# EAGLE library part S8232 (library Strawson_Eagle_Lib)
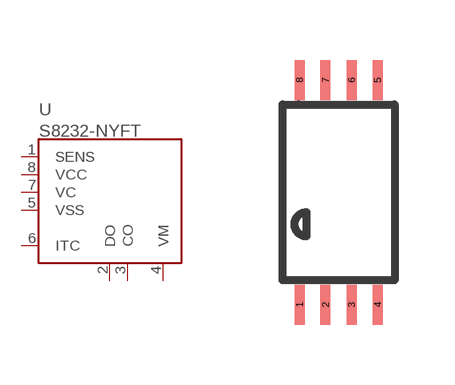
[diagram p11: symbol with the pads of TSSOP-8; footprint TSSOP-8]

Designator prefix -

## S8232  [TSSOP-8]
1  SENS
2  DO
3  CO
4  VM
5  VSS
6  ITC
7  VC
8  VCC

## Footprint TSSOP-8 (pad centres in mm)
smd 0.25 x 1: 1 -0.975,-2.813; 2 -0.325,-2.813; 3 0.325,-2.813; 4 0.975,-2.813; 5 0.975,2.813; 6 0.325,2.813; 7 -0.325,2.813; 8 -0.975,2.813